# EAGLE library part LM385MX-2.5_NOPB (library LM385MX-2.5_NOPB)
Micropower Voltage Reference Diode Source: Datasheet <http://www.ti.com/lit/gpn/lm385-2.5-n>
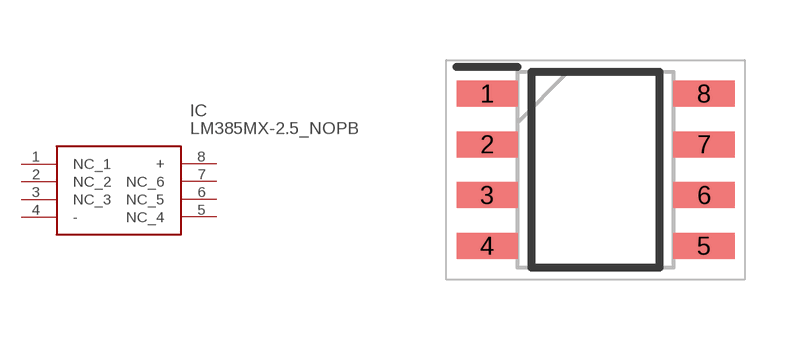
[diagram p0: symbol with the pads of SOIC127P600X175-8N; footprint SOIC127P600X175-8N]

Designator prefix IC

## LM385MX-2.5_NOPB (Description: Micropower Voltage Reference Diode; Height: 1.75mm; Manufacturer_Name: Texas Instruments; Manufacturer_Part_Number: LM385MX-2.5/NOPB)  [SOIC127P600X175-8N]
1  NC_1
2  NC_2
3  NC_3
4  -
5  NC_4
6  NC_5
7  NC_6
8  +

## Footprint SOIC127P600X175-8N (pad centres in mm)
D0008A height 1.75
smd 1.528 x 0.65: 1 -2.711,1.905; 2 -2.711,0.635; 3 -2.711,-0.635; 4 -2.711,-1.905; 5 2.711,-1.905; 6 2.711,-0.635; 7 2.711,0.635; 8 2.711,1.905